# Altium schematic symbol library HEAT.SchLib: 2 symbols
Pins are listed as number, name and electrical type; pins without a type are passive.

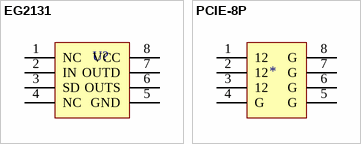
[diagram p0: symbols EG2131 to PCIE-8P]

## EG2131
designator U?  (value not drawn)
footprint SO8
pins: 1 NC, 2 IN, 3 SD, 4 NC, 5 GND, 6 OUTS, 7 OUTD, 8 VCC

## PCIE-8P
designator *  (value not drawn)
footprint PCIE_8PIN
pins: 1 12, 2 12, 3 12, 4 G, 5 G, 6 G, 7 G, 8 G